# Altium schematic symbol library nixie.SchLib: 11 symbols
Pins are listed as number, name and electrical type; pins without a type are passive.

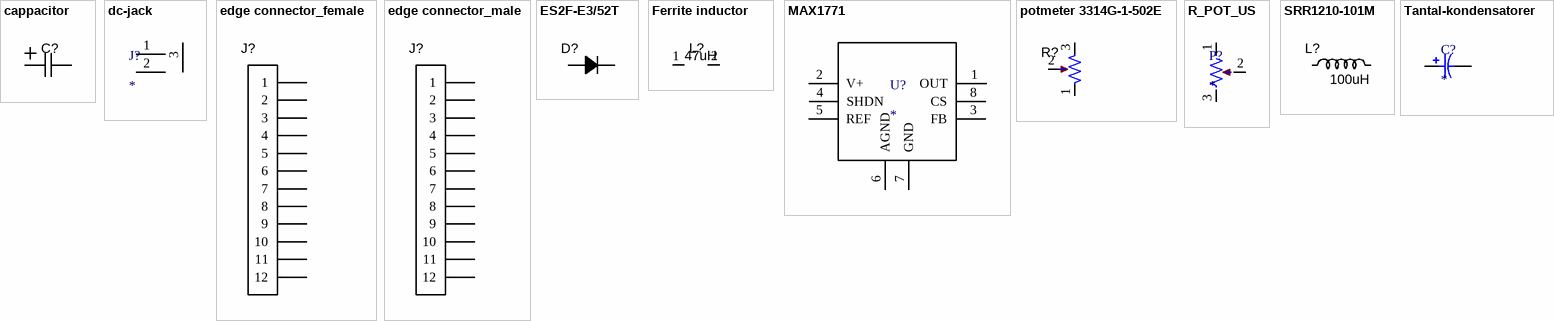
[diagram p0: symbols cappacitor to Tantal-kondensatorer]

## cappacitor
designator C?
4.7uF 250Vc; ComponentLink1Description: New link; ComponentLink1URL: https://www.digikey.ca/en/products/detail/kemet/A759KS475M2EAAE496/6196534; Value: 4.7uF
footprint 4.7uF 250V
pins: 1, 2

## dc-jack
designator J?
ComponentLink1Description: New link; ComponentLink1URL: https://www.digikey.no/en/products/detail/cui-devices/PJ-002A/96962
footprint BarrelJack (https://www.digikey.no/en/products/detail/cui-devices/PJ-002A/96962)
pins: 1 Pin_1, 2 Pin_2, 3 Pin_2

## edge connector_female
designator J?, comment Header 2mm  (value not drawn)
Header female 1x6, pitch 2mm; ComponentLink1Description: link; ComponentLink1URL: https://www.digikey.no/en/products/detail/kyocera-avx/009159012651906/15995075
footprint 9159 edge connector
pins: 1, 2, 3, 4, 5, 6, 7, 8, 9, 10, 11, 12

## edge connector_male
designator J?, comment Header 2mm  (value not drawn)
Header male 1x6, pitch 2mm; ComponentLink1Description: link
footprint edge connector
pins: 1, 2, 3, 4, 5, 6, 7, 8, 9, 10, 11, 12

## ES2F-E3/52T
designator D?
diode; ComponentLink1Description: New link; ComponentLink1URL: https://www.digikey.no/en/products/detail/vishay-general-semiconductor-diodes-division/ES2F-E3-52T/1091445?s=N4IgTCBcDaIAQB0AuBRAymAYgWhQZgHoBWMAFRAF0BfIA
footprint ES2F-E3/52T (diode)
pins: 1, 2

## Ferrite inductor
designator L?  value 47uH
CDRH127; ComponentLink1Description: New link; ComponentLink1URL: https://www.digikey.ca/en/products/detail/sumida-america-inc/CDRH127-LDNP-470MC/779015
footprint Ferrite inductor CDRH127
pins: 1, 2

## MAX1771
designator U?
ComponentLink1Description: New link; ComponentLink1URL: https://no.mouser.com/ProductDetail/Analog-Devices-Maxim-Integrated/MAX1771CSA+?qs=1THa7WoU59HAVajYWe%2BFOg%3D%3D&utm_source=OEMSecrets&utm_medium=aggregator&utm_campaign=MAX1771CSA+&utm_term=MAX1771CSA&utm_content=Analog+Devices+Inc.
footprint SOIC-8
pins: 1 OUT, 2 V+, 3 FB, 4 SHDN, 5 REF, 6 AGND, 7 GND, 8 CS

## potmeter 3314G-1-502E
designator R?
ComponentLink1Description: Value; ComponentLink1URL: 5kR; ComponentLink2Description: link; ComponentLink2URL: https://www.digikey.no/no/products/detail/bourns-inc/3314G-1-502E/86462; ComponentLink3Description: New link 1; ComponentLink3URL: *
footprint potmeter 3314G-1-502E
pins: 1, 2, 3

## R_POT_US
designator P?
ComponentLink1Description: New link; ComponentLink1URL: https://www.digikey.no/no/products/detail/bourns-inc/3214W-1-503E/248433?s=N4IgTCBcDaIEIHkCqAlAcgZQAQGYwEYAWAdQFp9SBWABhwFEQBdAXyA
footprint Potentiometer_Bourns_3214J_Horizontal
pins: 1, 2, 3

## SRR1210-101M
designator L?  value 100uH
Link: https://www.digikey.ca/en/products/detail/bourns-inc/SRR1210-101M/2352898
footprint SRR1210-101M
pins: 1, 2

## Tantal-kondensatorer
designator C?
Tantal-kondensatorer; Value: 100uF
footprint TAJD107K020RNJ
pins: 1, 2